# Altium footprint library VioletofSun.PcbLib: 319 footprints (part 10 of 20)
Each footprint in its own frame and in the unit in brackets; x right, y up, seen from the top. Pads: shape width x height; smd on the part's side, far side on the other; paste and mask are expansions set on the pad; w line width, h text height; cw(c..) or ccw(c..) is an arc to the next point about the centre after c.
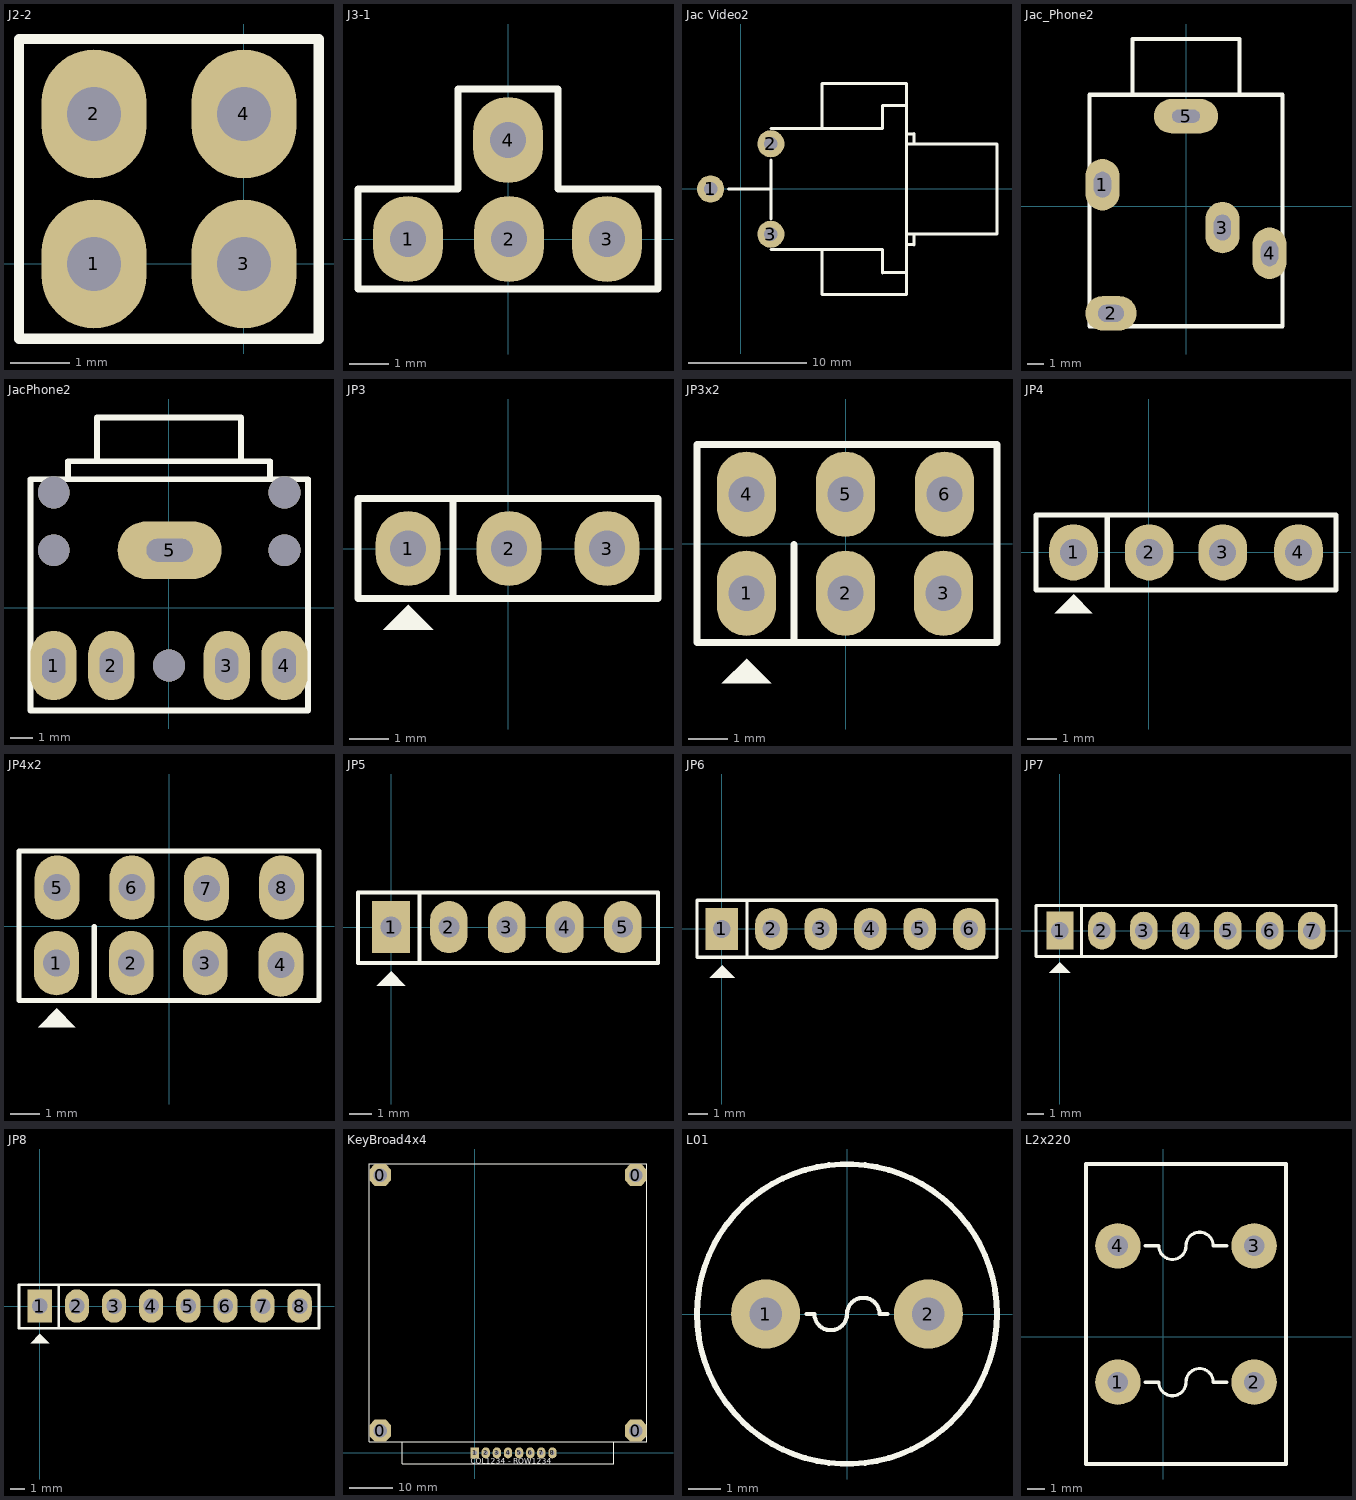
[diagram p9: the footprints below, top view; thin cyan lines are the x and y axes]

## J2-2 [mil] "Jumper 4"
height 200
pads (4):
  oval 70x86 hole 36: 1(-100,0) 2(-100,100) 3(0,0) 4(0,100)
Top Overlay:
  lines w7: -150,-50 -150,50 -150,150 50,150 50,-50 -150,-50

## J3-1 [mil] "Jumper 4"
height 200
pads (4):
  oval 70x86 hole 36: 1(-100,0) 2(1,0) 3(99,0) 4(0,99)
Top Overlay:
  lines w7: -150,-50 150,-50 150,50 50,50 50,150 -50,150 -50,50 -150,50 -150,-50

## Jac Video2 [mil] "Jac Video Stereo"
pads (3):
  round 90 hole 45: 1(-100,0) 2(100,150) 3(100,-150)
Top Overlay:
  lines w10: -40,0 101,0 ; 100,-200 470,-200 ; 100,200 470,200 470,277 550,277 ; 101,-99 101,96 ; 270,200 270,350 550,350 ; 470,-277 548,-277 549,-276 ; 550,-277 550,-350 270,-350 ; 550,-150 850,-150 850,150 550,150 ; 551,-184 574,-184 575,-185 575,-151 ; 551,183 574,183 575,184 575,150 ; 270,-350 270,-200 270,-350 ; 470,-200 470,-278 470,-200 ; 550,277 550,350 ; 550,277 550,350 ; 550,-275 550,275 550,-275

## Jac_Phone2 [mil] "Jac Phone Stereo"
pads (5):
  oval 80x120 hole 40 slot 60 at 90 deg: 1(-195,50) 3(85,-50) 4(195,-110)
  oval 120x80 hole 40 slot 60 at 0 deg: 2(-175,-250)
  oval 150x80 hole 30 slot 65 at 0 deg: 5(0,210)
Top Overlay:
  lines w10: -125,262 -125,390 125,390 125,262 ; 223,-280 -225,-280 ; -225,-280 -225,260 ; -225,-280 -225,260 ; -225,260 225,260 ; 225,260 225,-280 225,260

## JacPhone2 [mil] "Jac Phone Stereo"
pads (5):
  oval 80x120 hole 40 slot 60 at 90 deg: 1(-200,-100) 2(-100,-100) 3(100,-100) 4(200,-100)
  oval 180x100 hole 40 slot 80 at 0 deg: 5(1,100)
via 200,100 diameter 55 hole 55
via -200,100 diameter 55 hole 55
via 0,-100 diameter 55 hole 55
via 200,200 diameter 55 hole 55
via -200,200 diameter 55 hole 55
Top Overlay:
  lines w10: -240,219 -240,-178 ; -175,224 -175,254 175,254 175,226 174,225 ; -125,255 -125,330 125,330 ; 125,329 125,256 126,255 ; 240,-178 -240,-178 ; -240,-178 -240,223 241,223 241,-178 -240,-178

## JP3 [mil] "Jumper 3"
height 200
pads (3):
  oval 65x75 hole 36: 1(-100,0) 2(1,0) 3(99,0)
Top Overlay:
  region: -100,-56 -125,-81 -75,-81
  lines w7: -55,-50 -55,49 ; -150,-50 150,-50 150,50 -150,50 -150,-50
3D body: height 355.04, standoff -124.88, extent -150,-59.96 150,55

## JP3x2 [mil] "Connector 3x2"
height 200
pads (6):
  oval 60x86 hole 36: 1(-100,-50) 2(0,-50) 3(99,-50) 4(-100,50) 5(0,50) 6(100,50)
Top Overlay:
  region: -100,-116 -125,-141 -75,-141
  lines w7: -52,-100 -52,-1 ; -150,-100 -150,0 -150,100 153,100 153,-100 -150,-100

## JP4 [mil] "Jumper 4"
height 200
pads (4):
  oval 65x75 hole 36: 1(-100,0) 2(1,0) 3(99,0) 4(200,0)
Top Overlay:
  region: -100,-56 -125,-81 -75,-81
  lines w7: -55,-50 -55,49 ; -150,-50 250,-50 250,50 -150,50 -150,-50

## JP4x2 [mil] "Connector 4x2"
height 200
pads (8):
  oval 60x86 hole 36: 1(-150.5,-49.5) 2(-50.5,-49.5) 3(48.5,-49.5) 4(149.5,-51.5) 5(-149.5,51.5) 6(-49.5,51.5) 7(50,50) 8(150.5,51.5)
Top Overlay:
  region: -150,-110 -175,-135 -125,-135
  lines w7: -100,-99 -100,-1 ; -200.5,-99.5 -200.5,0.5 -200.5,100.5 200.5,100.5 200.5,-99.5 -200.5,-99.5

## JP5 [mil] "JP5"
height 200
pads (5):
  rect 65x90 hole 36: 1(0,0)
  oval 65x90 hole 36: 2(100,0) 3(200,0) 4(300,0) 5(400,0)
Top Overlay:
  region: 0,-76 -25,-101 25,-101
  lines w7: 49,-60 49,58 ; -57,-62 461,-62 461,60 -57,60 -57,-62

## JP6 [mil] "JP6"
height 200
pads (6):
  rect 65x85 hole 36: 1(0,0)
  oval 65x85 hole 36: 2(100,0) 3(200,0) 4(300,0) 5(400,0) 6(500,0)
Top Overlay:
  region: 1,-74 -24,-99 26,-99
  lines w7: 51,-57 51,56 ; -50,-57 -50,58 556,58 556,-57 -50,-57

## JP7 [mil] "JP7"
height 200
pads (7):
  rect 65x90 hole 42: 1(0,0)
  oval 65x90 hole 42: 2(100,0) 3(200,0) 4(300,0) 5(400,0) 6(500,0) 7(600,0)
Top Overlay:
  region: 0,-75 -25,-100 25,-100
  lines w7: 51,-58 51,60 ; -57,-62 658,-62 658,60 -57,60 -57,-62

## JP8 [mil] "JP8"
height 200
pads (8):
  rect 65x90 hole 42: 1(0,0)
  oval 65x90 hole 42: 2(100,0) 3(200,0) 4(300,0) 5(400,0) 6(500,0) 7(600,0) 8(700,0)
Top Overlay:
  region: 0,-75 -25,-100 25,-100
  lines w7: 51,-60 51,56 ; -56,-60 -56,57 752,57 752,-60 -56,-60

## KeyBroad4x4 [mm] "KeyBroad 4x4"
height 5.08
pads (12):
  oct 5x5 hole 3.048: 0(-21.59,5.08) 0(-21.59,63.5) 0(36.83,5.08) 0(36.83,63.5)
  rect 1.905x2.5 hole 1: 1(0,0)
  oval 1.905x2.5 hole 1: 2(2.54,0) 3(5.08,0) 4(7.62,0) 5(10.16,0) 6(12.7,0) 7(15.24,0) 8(17.78,0)
Top Overlay:
  lines w0.203: -16.51,2.54 -16.51,-2.515 -16.535,-2.54 31.75,-2.54 31.75,2.489 ; -24.13,2.54 -24.13,66.04 39.37,66.04 39.37,2.54 -24.13,2.54
  text "COL1234 - ROW1234" at -0.889,-2.464 h1.27

## L01 [mil] "Inductor"
pads (2):
  round 85 hole 40: 1(-100,0) 2(100,0)
Top Overlay:
  circle w7: c0,0 r184.39
  lines w5: -50,0 -40,0 ccw(c-20,0) 0,0 cw(c20,0) 40,0 50,0

## L2x220 [mil] "Loc 220"
pads (4):
  round 100 hole 45: 1(-100,-100) 2(200,-100) 3(200,200) 4(-100,200)
Top Overlay:
  lines w7: -10,-100 ccw(c20,-100) 50,-100 cw(c80,-100) 110,-100 ; -10,200 ccw(c20,200) 50,200 cw(c80,200) 110,200
  lines w8: -40,-100 -10,-100 ; -40,200 -10,200 ; 110,-100 140,-100 ; 110,200 140,200 ; -170,-280 -170,380 270,380 270,-280 -170,-280